# Altium schematic symbol library IC_TLV431.Schlib: 1 symbol
Pins are listed as number, name and electrical type; pins without a type are passive.

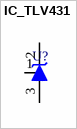
[diagram p0: symbol IC_TLV431]

## IC_TLV431
designator U?
pins: 1 Ref, 2 C, 3 A